# Altium footprint library Robot_2020.PcbLib: 89 footprints (part 6 of 6)
Each footprint in its own frame and in the unit in brackets; x right, y up, seen from the top. Pads: shape width x height; smd on the part's side, far side on the other; paste and mask are expansions set on the pad; w line width, h text height; cw(c..) or ccw(c..) is an arc to the next point about the centre after c.
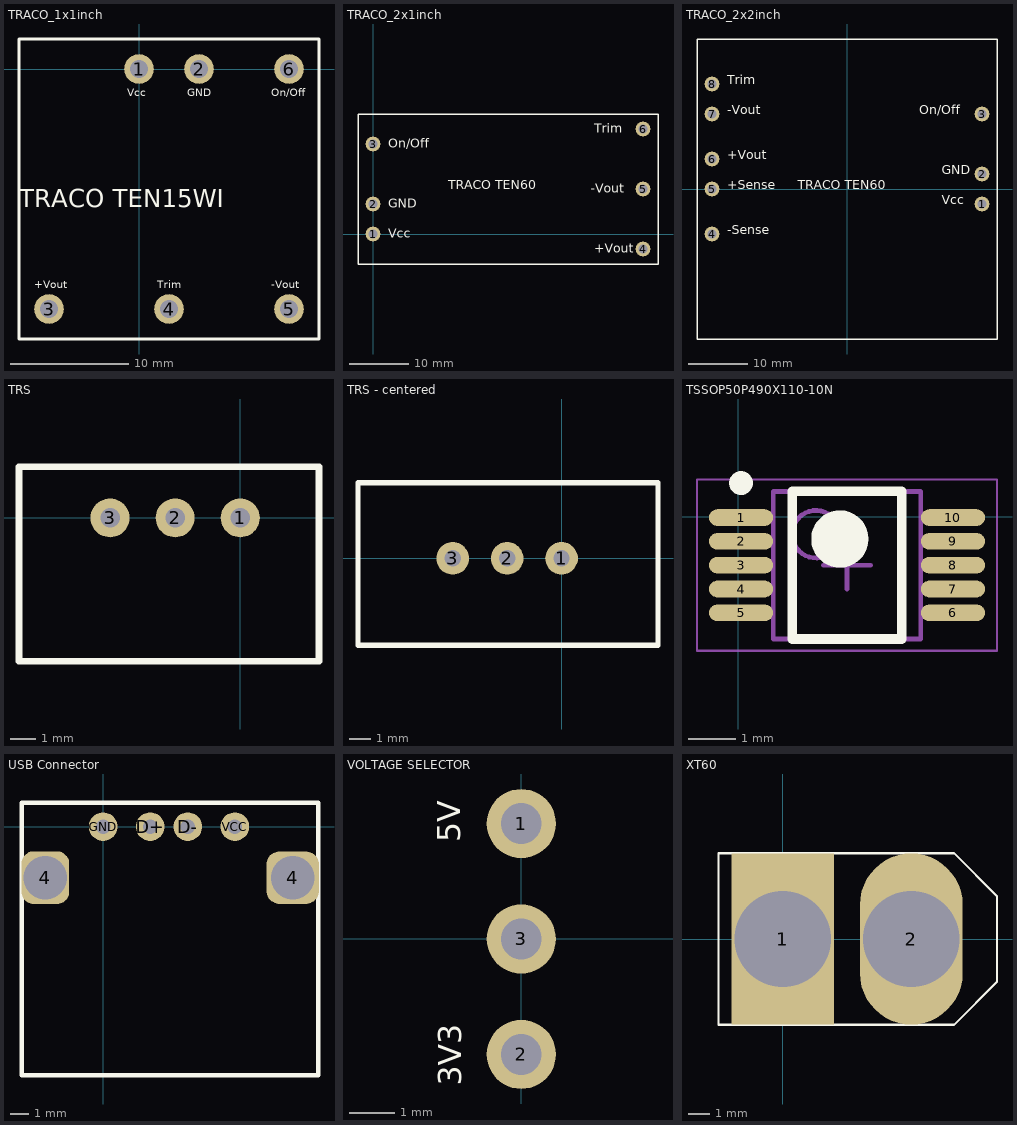
[diagram p5: the footprints below, top view; thin cyan lines are the x and y axes]

## TRACO_1x1inch [mm]
pads (6):
  round 2.5 hole 1.5: 1(0,0) 2(5.08,0) 3(-7.62,-20.32) 4(2.54,-20.32) 5(12.7,-20.32) 6(12.7,0)
Top Overlay:
  lines w0.254: -10.16,-22.86 15.24,-22.86 15.24,2.54 -10.16,2.54 -10.16,-22.86
  text "On/Off" at 11.176,-2.286 h0.64
  text "GND" at 4.064,-2.286 h0.64
  text "Vcc" at -1.016,-2.286 h0.64
  text "-Vout" at 11.176,-18.542 h0.64
  text "Trim" at 1.524,-18.542 h0.64
  text "+Vout" at -8.89,-18.542 h0.64
  text "TRACO TEN15WI" at -10.16,-11.684 h1.52
3D body "Traco_1x1inch.stp": height 10.11, standoff -5.59, extent -10.16,-22.86 15.24,2.54

## TRACO_2x1inch [mm]
pads (6):
  round 2.5 hole 1.5: 1(0,0) 2(0,5.08) 3(0,15.24) 4(45.72,-2.54) 5(45.72,7.62) 6(45.72,17.78)
Top Overlay:
  lines w0.254: -2.54,-5.08 48.26,-5.08 48.26,20.32 -2.54,20.32 -2.54,-5.08
  text "TRACO TEN60" at 12.7,7.62 h1.52
  text "Vcc" at 2.54,-0.635 h1.52
  text "GND" at 2.54,4.445 h1.52
  text "On/Off" at 2.54,14.605 h1.52
  text "+Vout" at 37.465,-3.175 h1.52
  text "-Vout" at 36.83,6.985 h1.52
  text "Trim" at 37.465,17.145 h1.52
3D body "Traco_2x1Inch.stp": height 10.21, standoff -5.59, extent -2.54,-5.08 48.26,20.32

## TRACO_2x2inch [mm]
pads (8):
  round 2.5 hole 1.5: 1(22.86,-2.54) 2(22.86,2.54) 3(22.86,12.7) 4(-22.86,-7.62) 5(-22.86,0) 6(-22.86,5.08) 7(-22.86,12.7) 8(-22.86,17.78)
Top Overlay:
  lines w0.254: -25.4,-25.4 25.4,-25.4 25.4,25.4 -25.4,25.4 -25.4,-25.4
  text "On/Off" at 12.192,12.7 h1.52
  text "GND" at 16.002,2.54 h1.52
  text "Vcc" at 16.002,-2.54 h1.52
  text "-Sense" at -20.32,-7.62 h1.52
  text "+Sense" at -20.32,0 h1.52
  text "+Vout" at -20.32,5.08 h1.52
  text "-Vout" at -20.32,12.7 h1.52
  text "Trim" at -20.32,17.78 h1.52
  text "TRACO TEN60" at -8.382,0 h1.52

## TRS [mil]
height 401.57
pads (3):
  round 60 hole 30: 1(0,0) 2(-100,0) 3(-200,0)
Top Overlay:
  lines w10: -339.76,-220.47 -339.76,78.74 120.87,78.74 120.87,-220.47 -339.76,-220.47
3D body "TSR 1-2450.stp": height 398.14, standoff -160.91, extent -340.63,-217.64 120,79.61

## TRS - centered [mil]
height 401.57
pads (3):
  round 60 hole 30: 1(0,0) 2(-100,0) 3(-200,0)
Top Overlay:
  lines w10: -374.02,-160 -374.02,139.21 177.17,139.21 177.17,-160 -374.02,-160
3D body: height 397.64, standoff 0, extent -374.02,-157.48 177.17,137.8

## TSSOP50P490X110-10N [mm] "TSSOP, 10-Leads, Body 3,00x3,00mm, Pitch 0,50mm, IPC Medium Density"
height 1.1
pads (10):
  oval 1.35x0.35 smd: 1(0.061,-0.016) 2(0.061,-0.516) 3(0.061,-1.016) 4(0.061,-1.516) 5(0.061,-2.016) 6(4.511,-2.016) 7(4.511,-1.516) 8(4.511,-1.016) 9(4.511,-0.516) 10(4.511,-0.016)
Top Overlay:
  circle w0.6: c2.136,-0.466 r0.3
  circle w0.25: c0.061,0.709 r0.125
  lines w0.2: 1.136,-2.566 3.436,-2.566 3.436,0.534 1.136,0.534 1.136,-2.566
Mechanical 13:
  circle w0.1: c1.636,-0.366 r0.5
  lines w0.1: 0.736,-2.566 3.836,-2.566 3.836,0.534 0.736,0.534 0.736,-2.566
Mechanical 15:
  lines w0.05: -0.864,-2.816 5.436,-2.816 5.436,0.784 -0.864,0.784 -0.864,-2.816
  lines w0.1: 1.786,-1.016 2.786,-1.016 ; 2.286,-1.516 2.286,-0.516
3D body: height 1.1, standoff 0.15, extent 0.736,-2.566 3.836,0.534

## USB Connector [mil] "87520-0010BLF"
pads (6):
  rrect50% 100x110 hole 90.55: 4(-120.87,-106.69)
  rrect50% 110x110 hole 90.55: 4(396.46,-106.69)
  round 60 hole 30: D+(98.43,0) D-(177.17,0) GND(0,0) VCC(275.59,0)
Top Overlay:
  lines w10: -170,-520 -170,50 450,50 450,-520 -170,-520
3D body "femaleThruHoleUSB.stp": height 292.82, standoff -145.56, extent -172.64,-519.49 448.23,49.21

## VOLTAGE SELECTOR [mil] "3 Pads for Voltage Selection"
pads (3):
  round 60 hole 35.43: 1(0,100) 2(0,-100) 3(0,0)
Top Overlay:
  text "3V3" at -52,-127 h20
  text "5V" at -53,84 h20
3D body "Pin Header 1x1 TH 2.54mm Pitch.stp": height 340.5, standoff -109.5, extent -50,-150 50,-50
3D body "Pin Header 1x1 TH 2.54mm Pitch.stp": height 340.5, standoff -109.5, extent -50,-50 50,50
3D body "Pin Header 1x1 TH 2.54mm Pitch.stp": height 340.5, standoff -109.5, extent -50,50 50,150

## XT60 [mm] "Connecteur Batterie"
pads (2):
  rect 4.8x8 hole 4.5: 1(0,0)
  oval 4.8x8 hole 4.5: 2(6,0)
Top Overlay:
  lines w0.1: -3,-4 8,-4 10,-2 10,2 8,4 -3,4 -3,-4 ; -3,-4 -3,-4